# Altium footprint library gpa_mounting.PcbLib: 8 footprints
Each footprint in its own frame and in the unit in brackets; x right, y up, seen from the top. Pads: shape width x height; smd on the part's side, far side on the other; paste and mask are expansions set on the pad; w line width, h text height; cw(c..) or ccw(c..) is an arc to the next point about the centre after c.
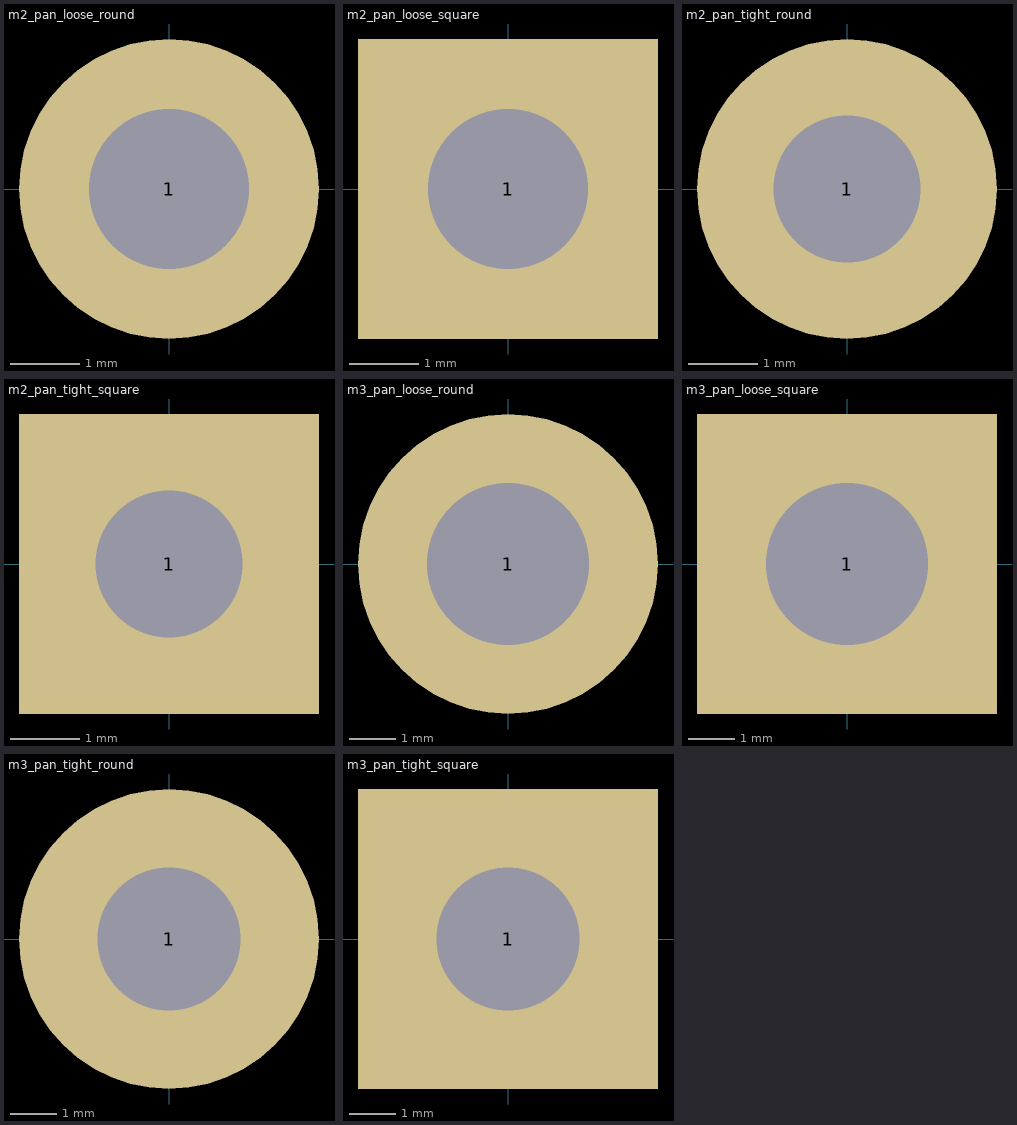
[diagram p0: the footprints below, top view; thin cyan lines are the x and y axes]

## m2_pan_loose_round [mm]
pads (1):
  round 4.3 hole 2.3: 1(0,0)

## m2_pan_loose_square [mm]
pads (1):
  rect 4.3x4.3 hole 2.3: 1(0,0)

## m2_pan_tight_round [mm]
pads (1):
  round 4.3 hole 2.1: 1(0,0)

## m2_pan_tight_square [mm]
pads (1):
  rect 4.3x4.3 hole 2.1: 1(0,0)

## m3_pan_loose_round [mm]
pads (1):
  round 6.5 hole 3.5: 1(0,0)

## m3_pan_loose_square [mm]
pads (1):
  rect 6.5x6.5 hole 3.5: 1(0,0)

## m3_pan_tight_round [mm]
pads (1):
  round 6.5 hole 3.1: 1(0,0)

## m3_pan_tight_square [mm]
pads (1):
  rect 6.5x6.5 hole 3.1: 1(0,0)